# Altium footprint library PcbLib1.PcbLib: 54 footprints (part 2 of 4)
Each footprint in its own frame and in the unit in brackets; x right, y up, seen from the top. Pads: shape width x height; smd on the part's side, far side on the other; paste and mask are expansions set on the pad; w line width, h text height; cw(c..) or ccw(c..) is an arc to the next point about the centre after c.
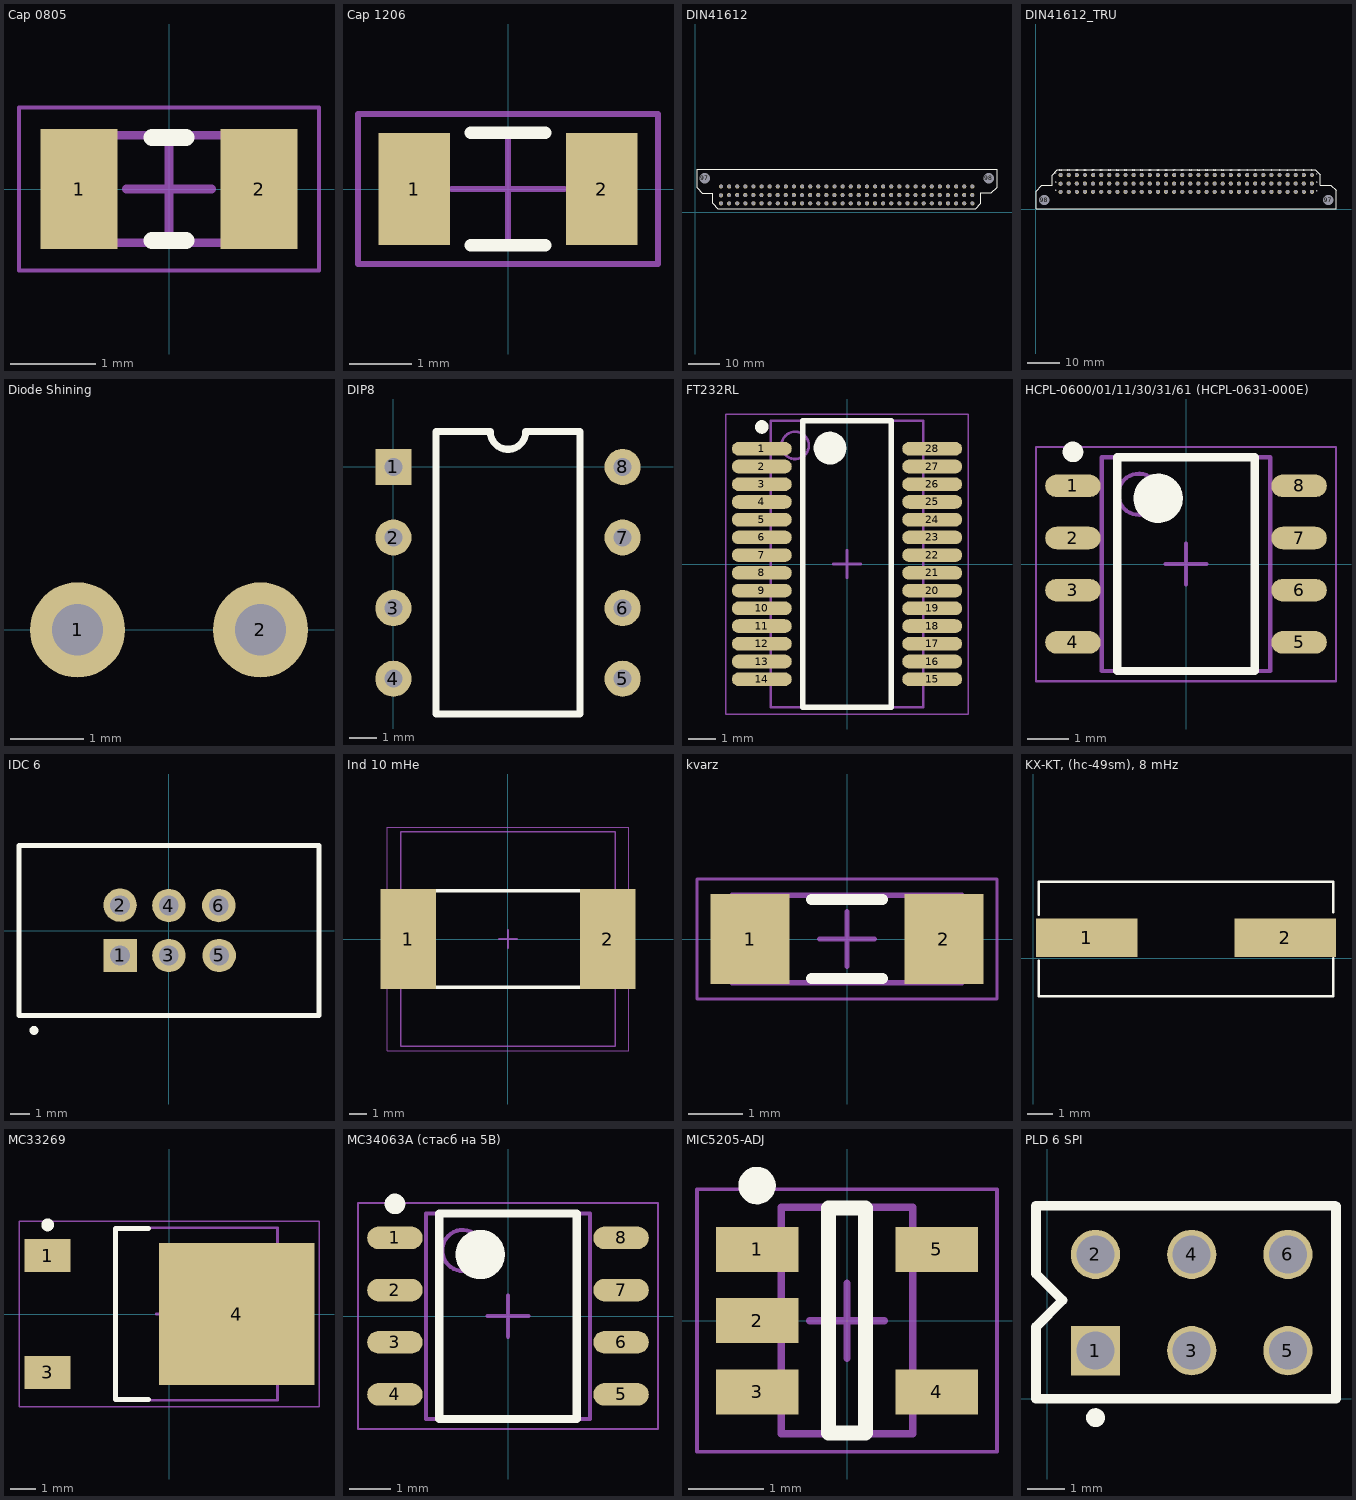
[diagram p1: the footprints below, top view; thin cyan lines are the x and y axes]

## Cap 0805 [mm]
height 1.3
pads (2):
  rect 0.9x1.4 smd: 1(-1.05,0) 2(1.05,0)
Top Overlay:
  lines w0.2: -0.2,-0.6 0.2,-0.6 ; -0.2,0.6 0.2,0.6
Mechanical 13:
  lines w0.1: -1,-0.625 -1,0.625 1,0.625 1,-0.625 -1,-0.625
Mechanical 15:
  lines w0.05: -1.75,-0.95 -1.75,0.95 1.75,0.95 1.75,-0.95 -1.75,-0.95
  lines w0.1: -0.5,0 0.5,0 ; 0,-0.5 0,0.5
3D body: height 1.3, standoff 0, extent -0.6,-0.625 0.6,0.625
3D body: height 1.3, standoff 0, extent -1,-0.625 -0.6,0.625
3D body: height 1.3, standoff 0, extent 0.6,-0.625 1,0.625

## Cap 1206 [mm]
pads (2):
  rect 1.15x1.8 smd: 1(-1.5,0) 2(1.5,0)
Top Overlay:
  lines w0.2: -0.6,-0.9 0.6,-0.9 ; -0.6,0.9 0.6,0.9
Mechanical 15:
  lines w0.1: -0.9,0 0.9,0 ; 0,-0.9 0,0.9 ; -2.4,-1.2 2.4,-1.2 2.4,1.2 -2.4,1.2 -2.4,-1.2

## DIN41612 [mm]
height 12
pads (98):
  round 1.3 hole 1.1 unplated: 1(86.77,8.04) 2(86.74,5.35) 3(86.77,2.76) 4(84.23,8.04) 5(84.2,5.35) 6(84.23,2.76) 7(81.69,8.04) 8(81.66,5.35) 9(81.69,2.76) 10(79.15,8.04) 11(79.12,5.35) 12(79.15,2.76) 13(76.61,8.04) 14(76.58,5.35) 15(76.61,2.76) 16(74.07,8.04) 17(74.04,5.35) 18(74.07,2.76) 19(71.53,8.04) 20(71.5,5.35) 21(71.53,2.76) 22(68.99,8.04) 23(68.96,5.35) 24(68.99,2.76) 25(66.45,8.04) 26(66.42,5.35) 27(66.45,2.76) 28(63.91,8.04) 29(63.88,5.35) 30(63.91,2.76) 31(61.37,8.04) 32(61.34,5.35) 33(61.37,2.76) 34(58.83,8.04) 35(58.8,5.35) 36(58.83,2.76) 37(56.29,8.04) 38(56.26,5.35) 39(56.29,2.76) 40(53.75,8.04) 41(53.72,5.35) 42(53.75,2.76) 43(51.21,8.04) 44(51.18,5.35) 45(51.21,2.76) 46(48.67,8.04) 47(48.64,5.35) 48(48.67,2.76) 49(46.13,8.04) 50(46.1,5.35) 51(46.13,2.76) 52(43.59,8.04) 53(43.56,5.35) 54(43.59,2.76) 55(41.05,8.04) 56(41.02,5.35) 57(41.05,2.76) 58(38.51,8.04) 59(38.48,5.35) 60(38.51,2.76) 61(35.97,8.04) 62(35.94,5.35) 63(35.97,2.76) 64(33.43,8.04) 65(33.4,5.35) 66(33.43,2.76) 67(30.89,8.04) 68(30.86,5.35) 69(30.89,2.76) 70(28.35,8.04) 71(28.32,5.35) 72(28.35,2.76) 73(25.81,8.04) 74(25.78,5.35) 75(25.81,2.76) 76(23.27,8.04) 77(23.24,5.35) 78(23.27,2.76) 79(20.73,8.04) 80(20.7,5.35) 81(20.73,2.76) 82(18.19,8.04) 83(18.16,5.35) 84(18.19,2.76) 85(15.65,8.04) 86(15.62,5.35) 87(15.65,2.76) 88(13.11,8.04) 89(13.08,5.35) 90(13.11,2.76) 91(10.57,8.04) 92(10.54,5.35) 93(10.57,2.76) 94(8.03,8.04) 95(8,5.25) 96(8.03,2.76)
  round 3 hole 3.2: 97(2.9,10.6) 98(91.9,10.6)
Top Overlay:
  lines w0.254: 8,13.4 11.2,13.4 ; 0.5,7.6 0.5,13.4 94.5,13.4 94.5,7.8 92.7,6 89.475,6 89.475,2.775 87.8,1.1 7,1.1 5.375,2.725 5.375,5.975 2.125,5.975 0.5,7.6

## DIN41612_TRU [mm]
pads (98):
  round 1.3 hole 1.1: 1(86.57,5.46) 2(84.03,5.46) 3(81.49,5.46) 4(78.95,5.46) 5(76.41,5.46) 6(73.87,5.46) 7(71.33,5.46) 8(68.79,5.46) 9(66.25,5.46) 10(63.71,5.46) 11(61.17,5.46) 12(58.63,5.46) 13(56.09,5.46) 14(53.55,5.46) 15(51.01,5.46) 16(48.47,5.46) 17(45.93,5.46) 18(43.39,5.46) 19(40.85,5.46) 20(38.31,5.46) 21(35.77,5.46) 22(33.23,5.46) 23(30.69,5.46) 24(28.15,5.46) 25(25.61,5.46) 26(23.07,5.46) 27(20.53,5.46) 28(17.99,5.46) 29(15.45,5.46) 30(12.91,5.46) 31(10.37,5.46) 32(7.83,5.46) 33(86.54,8.05) 34(84,8.05) 35(81.46,8.05) 36(78.92,8.05) 37(76.38,8.05) 38(73.84,8.05) 39(71.3,8.05) 40(68.76,8.05) 41(66.22,8.05) 42(63.68,8.05) 43(61.14,8.05) 44(58.6,8.05) 45(56.06,8.05) 46(53.52,8.05) 47(50.98,8.05) 48(48.44,8.05) 49(45.9,8.05) 50(43.36,8.05) 51(40.82,8.05) 52(38.28,8.05) 53(35.74,8.05) 54(33.2,8.05) 55(30.66,8.05) 56(28.12,8.05) 57(25.58,8.05) 58(23.04,8.05) 59(20.5,8.05) 60(17.96,8.05) 61(15.42,8.05) 62(12.88,8.05) 63(10.34,8.05) 64(7.8,8) 65(86.57,10.74) 66(84.03,10.74) 67(81.49,10.74) 68(78.95,10.74) 69(76.41,10.74) 70(73.87,10.74) 71(71.33,10.74) 72(68.79,10.74) 73(66.25,10.74) 74(63.71,10.74) 75(61.17,10.74) 76(58.63,10.74) 77(56.09,10.74) 78(53.55,10.74) 79(51.01,10.74) 80(48.47,10.74) 81(45.93,10.74) 82(43.39,10.74) 83(40.85,10.74) 84(38.31,10.74) 85(35.77,10.74) 86(33.23,10.74) 87(30.69,10.74) 88(28.15,10.74) 89(25.61,10.74) 90(23.07,10.74) 91(20.53,10.74) 92(17.99,10.74) 93(15.45,10.74) 94(12.91,10.74) 95(10.37,10.74) 96(7.83,10.74)
  round 3 hole 3.2: 97(91.7,2.9) 98(2.7,2.9)
Top Overlay:
  lines w0.254: 83.4,0.1 86.6,0.1 ; 0.1,0.1 0.1,5.7 1.9,7.5 5.125,7.5 5.125,10.725 6.8,12.4 87.6,12.4 89.225,10.775 89.225,7.525 92.475,7.525 94.1,5.9 94.1,0.1 0.1,0.1
  text "9" at 66.1,11.6 h1
  text "8" at 68.6,11.6 h1
  text "7" at 71.2,11.6 h1
  text "6" at 73.7,11.6 h1
  text "5" at 76.3,11.6 h1
  text "4" at 78.7,11.6 h1
  text "3" at 81.3,11.6 h1
  text "2" at 83.8,11.6 h1
  text "1" at 86.4,11.6 h1
  text "10" at 63.3,11.6 h1
  text "10" at 60.76,11.6 h1
  text "11" at 58.22,11.6 h1
  text "12" at 55.68,11.6 h1
  text "16" at 45.52,11.6 h1
  text "15" at 48.06,11.6 h1
  text "14" at 50.6,11.6 h1
  text "13" at 53.14,11.6 h1
  text "20" at 35.36,11.6 h1
  text "19" at 37.9,11.6 h1
  text "18" at 40.44,11.6 h1
  text "17" at 42.98,11.6 h1
  text "24" at 25.2,11.6 h1
  text "23" at 27.74,11.6 h1
  text "22" at 30.28,11.6 h1
  text "21" at 32.82,11.6 h1
  text "28" at 15.04,11.6 h1
  text "27" at 17.58,11.6 h1
  text "26" at 20.12,11.6 h1
  text "25" at 22.66,11.6 h1
  text "31" at 7.42,11.6 h1
  text "30" at 9.96,11.6 h1
  text "29" at 12.5,11.6 h1
  text "c" at 87.9,10.5 h1
  text "b" at 87.9,7.8 h1
  text "a" at 87.9,5.2 h1
  text "a" at 6.2,5.3 h1
  text "b" at 6.2,7.9 h1
  text "c" at 6.2,10.6 h1

## Diode Shining [mm]
pads (2):
  round 1.3 hole 0.7: 1(1.1,0) 2(3.6,0)
Bottom Overlay:
  lines w0.1: 1.125,1.95 1.875,1.95 ; 2.6,1.225 2.6,2.6 2.6,1.95 ; 3.375,1.95 2.6,1.95 ; 1.875,1.95 1.875,1.225 2.6,1.95 ; 1.875,1.95 1.875,2.6 1.95,2.6 2.6,1.95
  lines w0.254: 0.3,-0.5 0.3,0.3 0.3,0.4 0.7,0.8 4,0.8 4.4,0.4 4.4,-0.4 4,-0.8 0.6,-0.8 0.3,-0.5

## DIP8 [mm]
pads (8):
  rect 1.3x1.3 hole 0.65: 1(0,0)
  round 1.3 hole 0.65: 2(0,-2.54) 3(0,-5.08) 4(0,-7.62) 5(8.25,-7.62) 6(8.25,-5.08) 7(8.25,-2.54) 8(8.25,0)
Top Overlay:
  lines w0.254: 1.539,-8.89 6.711,-8.89 6.711,1.27 4.76,1.27 cw(c4.125,1.27) 3.49,1.27 1.539,1.27 1.539,-8.89

## FT232RL [mm] "SOP, 28-Leads, Body 10,20x5,30mm, Pitch 0,65mm, IPC Medium Density"
height 2
pads (28):
  oval 2.2x0.5 smd: 1(-3.125,4.225) 2(-3.125,3.575) 3(-3.125,2.925) 4(-3.125,2.275) 5(-3.125,1.625) 6(-3.125,0.975) 7(-3.125,0.325) 8(-3.125,-0.325) 9(-3.125,-0.975) 10(-3.125,-1.625) 11(-3.125,-2.275) 12(-3.125,-2.925) 13(-3.125,-3.575) 14(-3.125,-4.225) 15(3.125,-4.225) 16(3.125,-3.575) 17(3.125,-2.925) 18(3.125,-2.275) 19(3.125,-1.625) 20(3.125,-0.975) 21(3.125,-0.325) 22(3.125,0.325) 23(3.125,0.975) 24(3.125,1.625) 25(3.125,2.275) 26(3.125,2.925) 27(3.125,3.575) 28(3.125,4.225)
Top Overlay:
  circle w0.25: c-3.125,5.025 r0.125
  circle w0.6: c-0.625,4.25 r0.3
  lines w0.2: -1.625,-5.25 -1.625,5.25 1.625,5.25 1.625,-5.25 -1.625,-5.25
Mechanical 13:
  circle w0.1: c-1.9,4.35 r0.5
  lines w0.1: -2.8,-5.25 -2.8,5.25 2.8,5.25 2.8,-5.25 -2.8,-5.25
Mechanical 15:
  lines w0.05: -4.45,-5.5 -4.45,5.5 4.45,5.5 4.45,-5.5 -4.45,-5.5
  lines w0.1: -0.5,0 0.5,0 ; 0,-0.5 0,0.5
3D body: height 2, standoff 0.05, extent -2.8,-5.25 2.8,5.25

## HCPL-0600/01/11/30/31/61 (HCPL-0631-000E) [mm] "Small-Outline SO-8 Package (HCPL-0600/01/11/30/31/61)"
height 3.3
pads (8):
  oval 1.35x0.55 smd: 1(-2.75,1.905) 2(-2.75,0.635) 3(-2.75,-0.635) 4(-2.75,-1.905) 5(2.75,-1.905) 6(2.75,-0.635) 7(2.75,0.635) 8(2.75,1.905)
Top Overlay:
  circle w0.25: c-2.75,2.73 r0.125
  circle w0.6: c-0.675,1.6 r0.3
  lines w0.2: -1.675,-2.6 -1.675,2.6 1.675,2.6 1.675,-2.6 -1.675,-2.6
Mechanical 13:
  circle w0.1: c-1.15,1.7 r0.5
  lines w0.1: -2.05,-2.6 -2.05,2.6 2.05,2.6 2.05,-2.6 -2.05,-2.6
Mechanical 15:
  lines w0.05: -3.65,-2.85 -3.65,2.85 3.65,2.85 3.65,-2.85 -3.65,-2.85
  lines w0.1: -0.5,0 0.5,0 ; 0,-0.5 0,0.5
3D body: height 3.3, standoff 0.2, extent -2.05,-2.6 2.05,2.6

## IDC 6 [mm]
height 9.1
pads (6):
  rect 1.7x1.7 hole 1: 1(-2.48,-1.27)
  round 1.7 hole 1: 2(-2.48,1.29) 3(0,-1.27) 4(0,1.27) 5(2.56,-1.27) 6(2.54,1.27)
Top Overlay:
  circle w0.254: c-6.858,-5.08 r0.1
  lines w0.254: -7.62,-4.318 7.636,-4.318 7.636,4.318 -7.62,4.318 -7.62,-4.318
3D body "IDC-6.STEP": height 9, standoff -3.5, extent -7.61,-4.4 7.61,4.4

## Ind 10 mHe [mm]
height 0.6
pads (2):
  rect 3.1x5.6 smd: 1(-5.59,0) 2(5.59,0)
Top Overlay:
  lines w0.2: -4.3,-2.7 4.3,-2.7 ; -4.3,2.7 4.3,2.7
Mechanical 13:
  lines w0.1: -6,-6 -6,6 6,6 6,-6 -6,-6
Mechanical 15:
  lines w0.05: -6.75,-6.25 -6.75,6.25 6.75,6.25 6.75,-6.25 -6.75,-6.25
  lines w0.1: -0.5,0 0.5,0 ; 0,-0.5 0,0.5
3D body: height 0.6, standoff 0, extent -4.5,-6 4.5,6
3D body: height 0.6, standoff 0, extent -6,-6 -4.5,6
3D body: height 0.6, standoff 0, extent 4.5,-6 6,6

## kvarz [mm]
height 0.85
pads (2):
  rect 1.45x1.65 smd: 1(-1.775,0) 2(1.775,0)
Top Overlay:
  lines w0.2: -0.65,-0.725 0.65,-0.725 ; -0.65,0.725 0.65,0.725
Mechanical 13:
  lines w0.1: -2.1,-0.8 2.1,-0.8 2.1,0.8 -2.1,0.8 -2.1,-0.8
Mechanical 15:
  lines w0.05: -2.75,-1.1 2.75,-1.1 2.75,1.1 -2.75,1.1 -2.75,-1.1
  lines w0.1: -0.5,0 0.5,0 ; 0,-0.5 0,0.5
3D body: height 0.85, standoff 0, extent 1.3,-0.8 2.1,0.8
3D body: height 0.85, standoff 0, extent -2.1,-0.8 -1.3,0.8
3D body: height 0.85, standoff 0, extent -1.3,-0.8 1.3,0.8

## KX-KT, (hc-49sm), 8 mHz [mm]
pads (2):
  rect 4x1.5 all layers, no hole: 1(2.1,0.8) 2(9.9,0.8)
Top Overlay:
  lines w0.1: 0.2,-0.1 0.2,-1.5 11.8,-1.5 11.8,0 ; 0.2,1.7 0.2,3 11.8,3 11.8,1.8

## MC33269 [mm] "D-PAK, 3-Pads, Body 6,27x6,73mm (max), IPC Medium Density"
height 0.58
pads (3):
  rect 1.8x1.3 smd: 1(-4.75,2.29) 3(-4.75,-2.29)
  rect 6.1x5.55 smd: 4(2.65,0)
Top Overlay:
  circle w0.25: c-4.75,3.49 r0.125
  lines w0.2: -0.8,-3.35 -2.1,-3.35 -2.1,3.35 -0.8,3.35
Mechanical 13:
  lines w0.1: -2.1,-3.375 4.25,-3.375 4.25,3.375 -2.1,3.375 -2.1,-3.375
Mechanical 15:
  lines w0.05: -5.875,-3.625 5.875,-3.625 5.875,3.625 -5.875,3.625 -5.875,-3.625
  lines w0.1: -0.5,0 0.5,0 ; 0,-0.5 0,0.5
3D body: height 0.58, standoff 0.48, extent -2.1,-3.375 4.25,3.375

## MC34063A (стасб на 5В) [mm]
height 1.35
pads (8):
  oval 1.35x0.55 smd: 1(-2.75,1.905) 2(-2.75,0.635) 3(-2.75,-0.635) 4(-2.75,-1.905) 5(2.75,-1.905) 6(2.75,-0.635) 7(2.75,0.635) 8(2.75,1.905)
Top Overlay:
  circle w0.6: c-0.675,1.5 r0.3
  circle w0.25: c-2.75,2.73 r0.125
  lines w0.2: -1.675,-2.5 1.675,-2.5 1.675,2.5 -1.675,2.5 -1.675,-2.5
Mechanical 13:
  circle w0.1: c-1.1,1.6 r0.5
  lines w0.1: -2,-2.5 2,-2.5 2,2.5 -2,2.5 -2,-2.5
Mechanical 15:
  lines w0.05: -3.65,-2.75 3.65,-2.75 3.65,2.75 -3.65,2.75 -3.65,-2.75
  lines w0.1: -0.5,0 0.5,0 ; 0,-0.5 0,0.5
3D body: height 1.75, standoff 1.35, extent -2,-2.5 2,2.5

## MIC5205-ADJ [mm] "SOT23, 5-Leads, Body 2,91x2,80mm, Pitch 0,95mm, IPC Medium Density"
height 1.45
pads (5):
  rect 1.1x0.6 smd: 1(-1.2,0.95) 2(-1.2,0) 3(-1.2,-0.95) 4(1.2,-0.95) 5(1.2,0.95)
Top Overlay:
  circle w0.25: c-1.2,1.8 r0.125
  lines w0.2: -0.25,-1.5 -0.25,1.5 0.25,1.5 0.25,-1.5 -0.25,-1.5
Mechanical 13:
  lines w0.1: -0.875,-1.51 0.875,-1.51 0.875,1.51 -0.875,1.51 -0.875,-1.51
Mechanical 15:
  lines w0.05: -2,-1.75 2,-1.75 2,1.75 -2,1.75 -2,-1.75
  lines w0.1: -0.5,0 0.5,0 ; 0,-0.5 0,0.5
3D body: height 1.45, standoff 0, extent -0.875,-1.51 0.875,1.51

## PLD 6 SPI [mm]
pads (6):
  rect 1.3x1.3 hole 1: 1(1.27,1.27)
  round 1.3 hole 1: 2(1.27,3.81) 3(3.81,1.27) 4(3.81,3.81) 5(6.35,1.27) 6(6.35,3.81)
Top Overlay:
  circle w0.25: c1.27,-0.5 r0.125
  lines w0.254: 0.4,2.6 -0.3,1.9 -0.3,0 7.62,0 7.62,5.08 7.6,5.1 -0.3,5.1 -0.3,3.3 0.4,2.6 ; 0.4,2.6 0.4,2.6
3D body "вилка СНП346-6ВП21-2-В.STEP": height 8.8, standoff -3, extent 0,0.04 7.62,5.04